# Altium footprint library GL5516.PcbLib: 1 footprints
Each footprint in its own frame and in the unit in brackets; x right, y up, seen from the top. Pads: shape width x height; smd on the part's side, far side on the other; paste and mask are expansions set on the pad; w line width, h text height; cw(c..) or ccw(c..) is an arc to the next point about the centre after c.
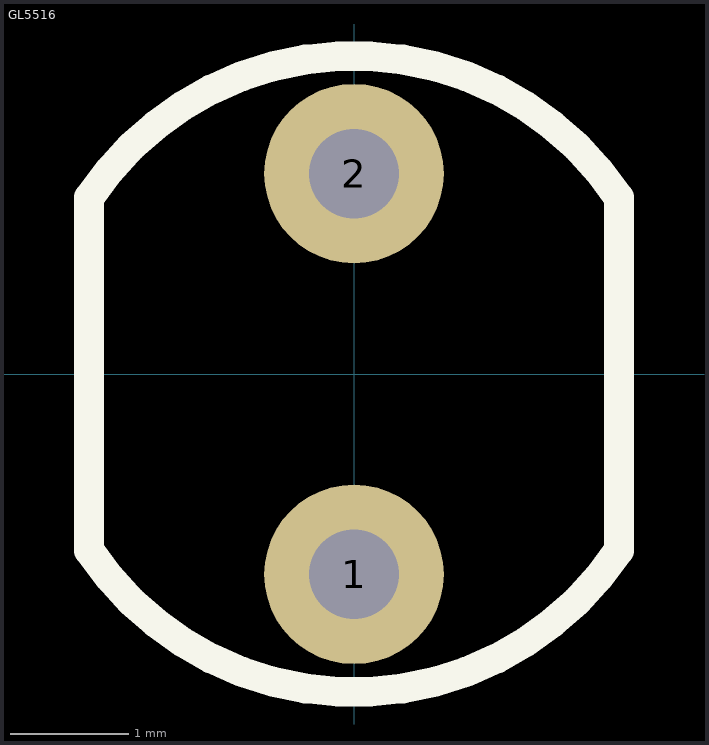
[diagram p0: the footprint, top view; thin cyan lines are the x and y axes]

## GL5516 [mil]
pads (2):
  round 60 hole 30: 1(0,-66.93) 2(0,66.93)
Top Overlay:
  lines w10: -88.58,-59.06 -88.58,59.06 ; -88.45,-58.96 ccw(c0,0) 88.45,-58.96 ; -88.45,58.96 cw(c0,0) 88.45,58.96 ; 88.58,-59.06 88.58,59.06